# Altium integrated library Reza_Lib.IntLib: 14 symbols
Pins are listed as number, name and electrical type; pins without a type are passive.

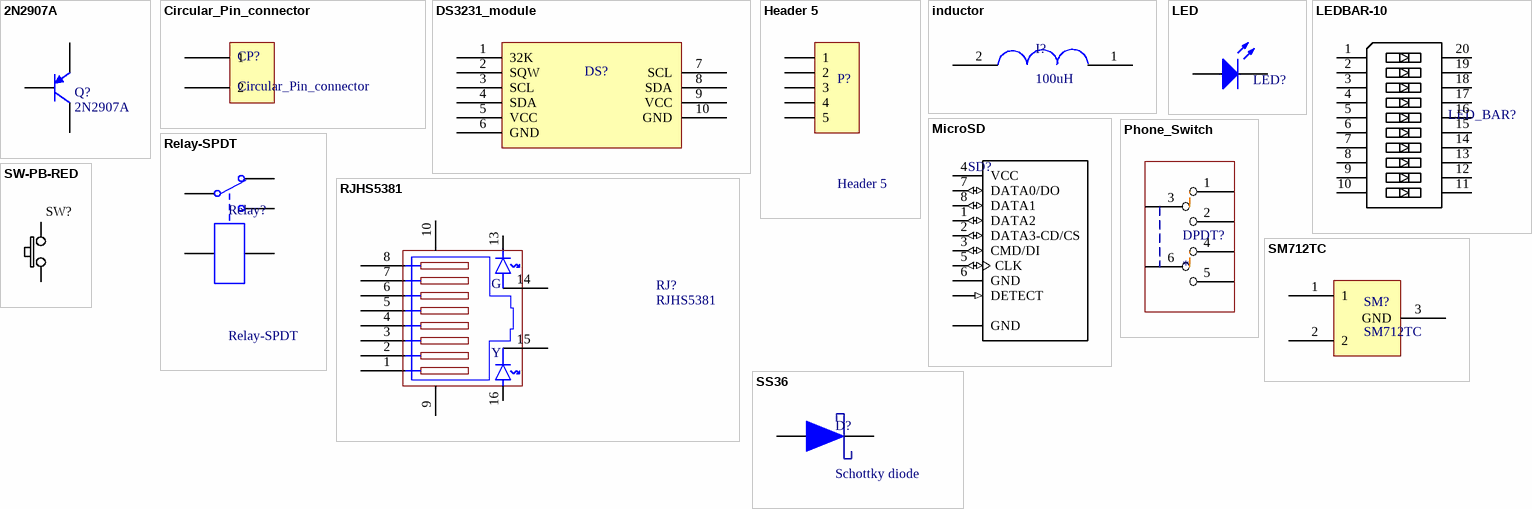
[diagram p0: symbols 2N2907A to SW-PB-RED]

## 2N2907A
designator Q?
General Purpose Amplifier and Switch; Published: 8-Jun-2000; LatestRevisionDate: 11-Dec-2002; LatestRevisionNote: Sim Port Map correction; DatasheetVersion: Nov-1997; PackageReference: TO-18; Publisher: Altium Limited; PackageDescription: Can; 3 Leads; Pin Circle Dia. 2.54 mm; Lead Dia. 0.49 mm (max); ComponentLink1Description: Manufacturer Link; ComponentLink1URL: http://www.st.com/; ComponentLink2Description: Datasheet; ComponentLink2URL: http://www.st.com/stonline/products/literature/ds/9037/2n2905a.pdf
footprint SOT-23(-1)
pins: 1 C, 2 B, 3 E

## Circular_Pin_connector
designator CP?
footprint JP circular 2 (Circular Pin connector - 2Pin)
pins: 1, 2

## DS3231_module
designator DS?, comment DS module  (value not drawn)
footprint DS3231_module
pins: 1 32K, 2 SQW, 3 SCL, 4 SDA, 5 VCC, 6 GND, 7 SCL, 8 SDA, 9 VCC, 10 GND

## Header 5
designator P?
Header, 5-Pin; LatestRevisionDate: 17-Jul-2002; LatestRevisionNote: Re-released for DXP Platform.; Publisher: Altium Limited
footprint JP circular 5
pins: 1, 2, 3, 4, 5

## inductor
designator I?, comment 100uH
value: 100uH
footprint RH127 (RH127 inductor 12*12*7 (100uH))
pins: 1, 2

## LED
designator LED?  (value not drawn)
Typical INFRARED GaAs LED; Published: 8-Jun-2000; LatestRevisionDate: 08-Jul-2005; LatestRevisionNote: Mech Layer 1 removed.; PackageReference: LED-0; Publisher: Altium Limited
footprint LED5MM
footprint 0805 (Chip Resistor, Body 2.0x1.2mm, IPC High Density)
pins: 1 A, 2 K

## LEDBAR-10
designator LED_BAR?  (value not drawn)
Supplier 1: Mouser; Supplier Part Number 1: 604-DC10GWA
footprint LEDBAR-10
pins: 1, 2, 3, 4, 5, 6, 7, 8, 9, 10, 11, 12, 13, 14, 15, 16, 17, 18, 19, 20

## MicroSD
designator SD?  (value not drawn)
footprint MicroSD
pins: 1 DATA2 (io), 2 DATA3-CD/CS (io), 3 CMD/DI (io), 4 VCC (power), 5 CLK (io), 6 GND (power), 7 DATA0/DO (io), 8 DATA1 (io), DETECT (in), GND (power)

## Phone_Switch
designator DPDT?
footprint PHONE_DPDT (Switch of phone from type of DPDT)
pins: 1, 2, 3, 4, 5, 6

## Relay-SPDT
designator Relay?
Single-Pole Dual-Throw Relay; Published: 24-Mar-1999; LatestRevisionDate: 17-Jul-2002; LatestRevisionNote: Re-released for DXP Platform.; PackageReference: MODULE5B; Publisher: Altium Limited
footprint REL-6AS
pins: B1, B2, COM, NC, NO

## RJHS5381
designator RJ?
Connector, RJ45 with Leds, (Ethernet), Thru-Hole
footprint RJHS5381
footprint RJHS5381
pins: 1, 2, 3, 4, 5, 6, 7, 8, 9, 10, 13, 14, 15, 16
text: G; Y

## SM712TC
designator SM?
Asymmetrical Transient Voltage Suppressors Diode ; Bidirectional , 12V
footprint SOT-23(-3)
pins: 1, 2, 3 GND

## SS36
designator D?, comment Schottky diode
Surface Mount Schottky Barrier Rectifier; Revision 1: 11-Jul-2000: SIM Model Added.; Revision 2: 17-Jul-2002: Re-released for DXP Platform.; Package Information: Latest Revision: Aug-1999; Code - JEDEC: DO-204-AL; Published: 8-Jun-2000; Datasheet: Latest Revision: 1998; Package Reference: DO-41; Publisher: Altium Limited
footprint DO-214AB (DO-214AB(SMC))
pins: 1 A, 2 K

## SW-PB-RED
designator SW?, comment SW  (value not drawn)
SW-D6-R / SW-DS-S / SW-14X14 / SW-7X7
footprint KEY-11
pins: 1, 2